# Altium schematic symbol library MS5611-01BA03.SchLib: 1 symbol
Pins are listed as number, name and electrical type; pins without a type are passive.

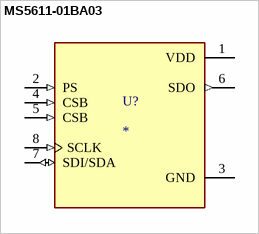
[diagram p0: symbol MS5611-01BA03]

## MS5611-01BA03
designator U?
Pressure Sensor 0.15PSI ~ 17.4PSI (1kPa ~ 120kPa) Absolute - 24 b 8-SMD; MF: TE Connectivity; MP: MS5611-01BA03; Package: SMD-8 Measurement Specialties; Price: None; Value: *; SnapEDA_Link: https://www.snapeda.com/parts/MS5611-01BA03/TE+Connectivity+ALCOSWITCH+Switches/view-part/?ref=snap; Availability: Not in stock; Check_prices: https://www.snapeda.com/parts/MS5611-01BA03/TE+Connectivity+ALCOSWITCH+Switches/view-part/?ref=eda
footprint SON125P500X300X100-8N
pins: 1 VDD (power), 2 PS (in), 3 GND (power), 4 CSB (in), 5 CSB (in), 6 SDO (out), 7 SDI/SDA (io), 8 SCLK (in)